# Altium schematic symbol library MainBoard.SCHLIB: 15 symbols
Pins are listed as number, name and electrical type; pins without a type are passive.

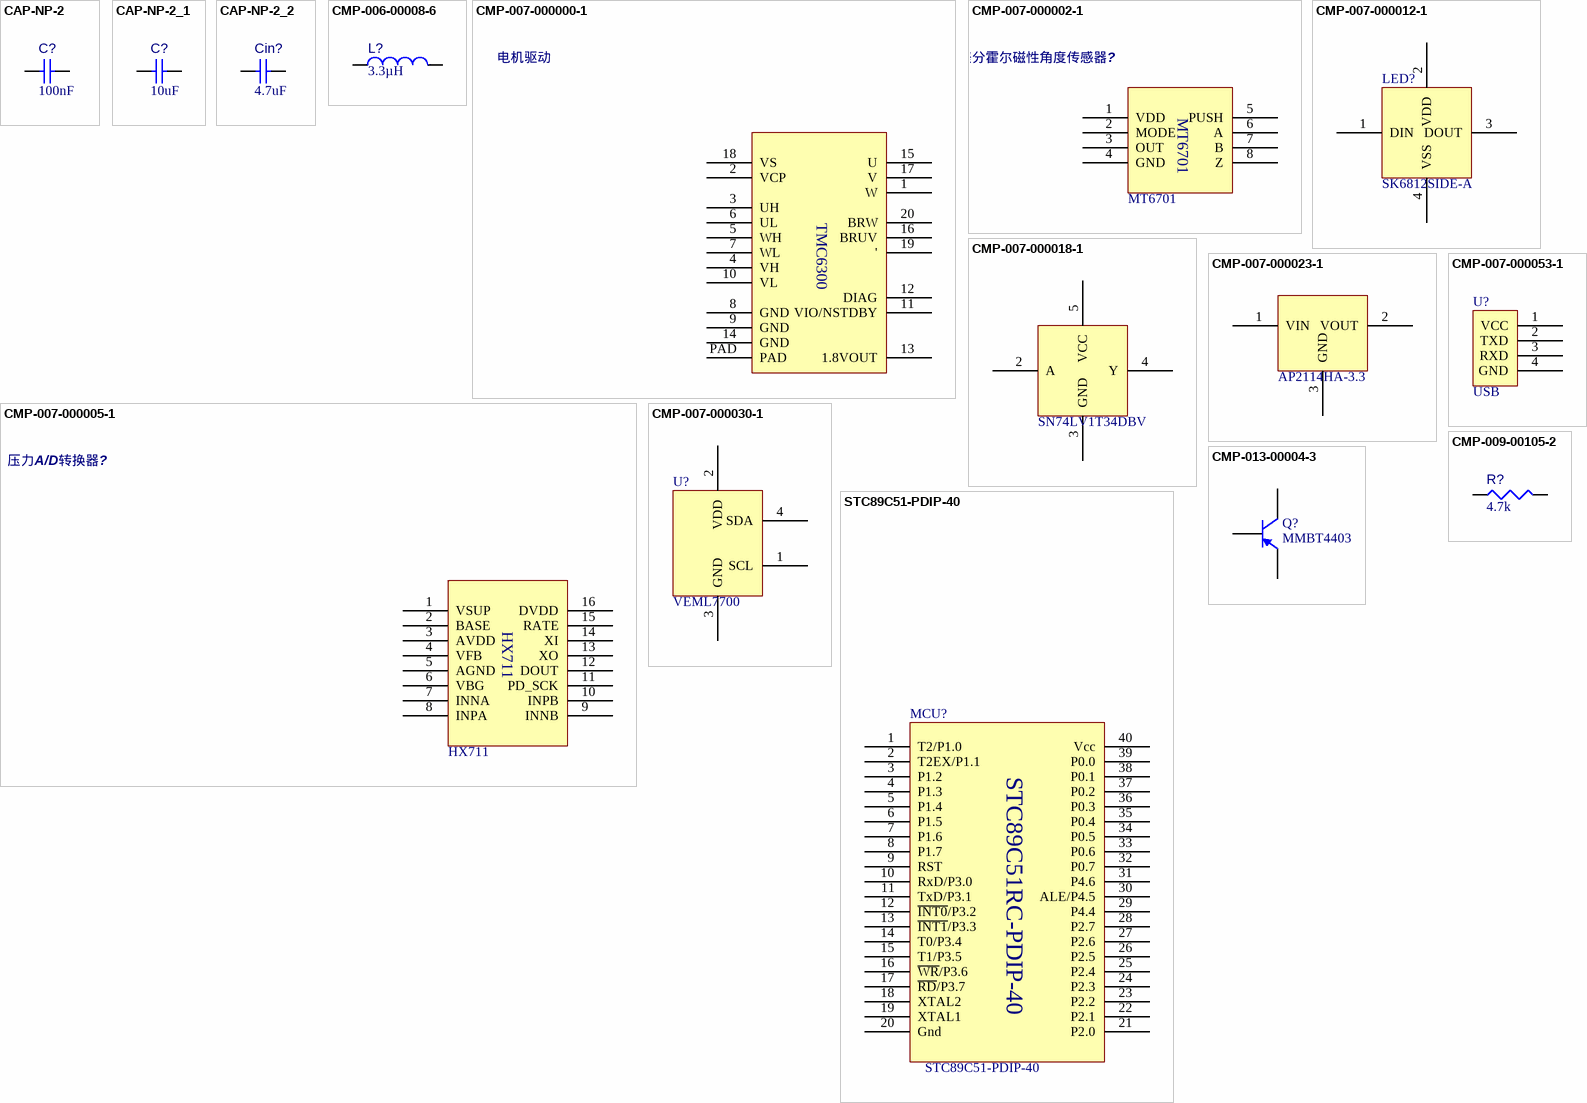
[diagram p0: symbols CAP-NP-2 to STC89C51-PDIP-40]

## CAP-NP-2
designator C?, comment value 100nF  (hidden comment: Capacitor 0.1 uF +/- 5% 16 V 0402)
Chip Capacitor, 0.1 uF, +/- 5%, 16 V, 0402 (1005 Metric); Capacitor Type: Ceramic; Voltage Rating: 16V; Max Operating Temperature: 125°C; Min Operating Temperature: -55°C; Case/Package: 0402; Mounting Technology: SM; Pins: 2; Tolerance: 5%; RoHS Compliant: True
footprint CAPC1005X56X25LL10T15 (Chip Capacitor, 2-Leads, Body 1.10x0.60mm, IPC High Density)
footprint CAPC1005X56X25NL10T15 (Chip Capacitor, 2-Leads, Body 1.10x0.60mm, IPC Medium Density)
footprint CAPC1005X56X25ML10T15 (Chip Capacitor, 2-Leads, Body 1.10x0.60mm, IPC Low Density)
pins: 1, 2

## CAP-NP-2_1
designator C?, comment value 10uF  (hidden comment: Capacitor 0.1 uF +/- 5% 16 V 0402)
Chip Capacitor, 0.1 uF, +/- 5%, 16 V, 0402 (1005 Metric); Capacitor Type: Ceramic; Voltage Rating: 16V; Max Operating Temperature: 125°C; Min Operating Temperature: -55°C; Case/Package: 0402; Mounting Technology: SM; Pins: 2; Tolerance: 5%; RoHS Compliant: True
footprint CAPC1005X56X25LL10T15 (Chip Capacitor, 2-Leads, Body 1.10x0.60mm, IPC High Density)
footprint CAPC1005X56X25NL10T15 (Chip Capacitor, 2-Leads, Body 1.10x0.60mm, IPC Medium Density)
footprint CAPC1005X56X25ML10T15 (Chip Capacitor, 2-Leads, Body 1.10x0.60mm, IPC Low Density)
pins: 1, 2

## CAP-NP-2_2
designator Cin?, comment value 4.7uF  (hidden comment: Capacitor 0.1 uF +/- 5% 16 V 0402)
Chip Capacitor, 0.1 uF, +/- 5%, 16 V, 0402 (1005 Metric); Capacitor Type: Ceramic; Voltage Rating: 16V; Max Operating Temperature: 125°C; Min Operating Temperature: -55°C; Case/Package: 0402; Mounting Technology: SM; Pins: 2; Tolerance: 5%; RoHS Compliant: True
footprint CAPC1005X56X25LL10T15 (Chip Capacitor, 2-Leads, Body 1.10x0.60mm, IPC High Density)
footprint CAPC1005X56X25NL10T15 (Chip Capacitor, 2-Leads, Body 1.10x0.60mm, IPC Medium Density)
footprint CAPC1005X56X25ML10T15 (Chip Capacitor, 2-Leads, Body 1.10x0.60mm, IPC Low Density)
pins: 1, 2

## CMP-006-00008-6
designator L?, comment value 3.3µH  (hidden comment: LQM2HPN1R0MJ0L)
Chip Inductor, 1 uH, +/- 20%, 1 MHz, -55 to 125 degC, 1008 (2520 Metric), RoHS, Tape and Reel; Manufacturer: Murata; Self Resonant Frequency: 70MHz; Current Rating: 1.5A; Shielding: Shielded; Core Material: Ferrite; Resistance: 0.09Ohm; Datasheet URL: http://psearch.en.murata.com/inductor/product/LQM2HPN1R0MJ0%23.pdf; Datasheet Version: Aug-16; RoHS Compliant: True; Case/Package: 1008; Package Description: 2-Pin Surface Mount Device, Body 2.5 x 2 mm; Package Quantity: 3000; Tolerance: 20%; Min Operating Temperature: -40°C; Package Reference: 1008; Packaging: TapeandReel; Mounting Technology: SM; Max Operating Temperature: 85°C; Manufacturer Part Number: LQM2HPN1R0MJ0L; Component Type: Inductors
footprint INDC2520X120X60NL20T20 (Chip Inductor, 2-Leads, Body 2.70x2.20mm, IPC Medium Density)
footprint INDC2520X120X60ML20T20 (Chip Inductor, 2-Leads, Body 2.70x2.20mm, IPC Low Density)
footprint INDC2520X120X60LL20T20 (Chip Inductor, 2-Leads, Body 2.70x2.20mm, IPC High Density)
pins: 1, 2

## CMP-007-000000-1
designator TMC?, comment 电机驱动
Source: IC.SchLib; Design Item ID: TMC6300
pins: 1 W (oc), 2 VCP (oc), 3 UH (oc), 4 VH (oc), 5 WH (oc), 6 UL (oc), 7 WL (oc), 8 GND (oc), 9 GND (oc), 10 VL (oc), 11 VIO/NSTDBY (oc), 12 DIAG (oc), 13 1.8VOUT (oc), 14 GND (oc), 15 U (oc), 16 BRUV (oc), 17 V (oc), 18 VS (oc), 19 ' (oc), 20 BRW (oc), PAD (oc)

## CMP-007-000002-1
designator 差分霍尔磁性角度传感器?, comment MT6701
Source: IC.SchLib; Design Item ID: MT6701
pins: 1 VDD (oc), 2 MODE (oc), 3 OUT (oc), 4 GND (oc), 5 PUSH (oc), 6 A (oc), 7 B (oc), 8 Z (oc)

## CMP-007-000005-1
designator 压力A/D转换器?, comment HX711
Source: IC.SchLib; Design Item ID: HX711
pins: 1 VSUP (oc), 2 BASE (oc), 3 AVDD (oc), 4 VFB (oc), 5 AGND (oc), 6 VBG (oc), 7 INNA (oc), 8 INPA (oc), 9 INNB (oc), 10 INPB (oc), 11 PD_SCK (oc), 12 DOUT (oc), 13 XO (oc), 14 XI (oc), 15 RATE (oc), 16 DVDD (oc)

## CMP-007-000012-1
designator LED?, comment SK6812SIDE-A
Design Item ID: SK6812SIDE-A; Source: IC.SchLib
pins: 1 DIN (oc), 2 VDD (oc), 3 DOUT (oc), 4 VSS (oc)

## CMP-007-000018-1
designator SN74LV1T34DBV?, comment SN74LV1T34DBV
Design Item ID: SN74LV1T34DBV; Source: IC.SchLib
pins: 2 A (oc), 3 GND (oc), 4 Y (oc), 5 VCC (oc)

## CMP-007-000023-1
designator *?, comment AP2114HA-3.3
Source: IC.SchLib; Design Item ID: AP2114HA-3.3
pins: 1 VIN (oc), 2 VOUT (oc), 3 GND (oc)

## CMP-007-000030-1
designator U?, comment VEML7700
Design Item ID: VEML7700; Source: IC.SchLib
pins: 1 SCL (oc), 2 VDD (oc), 3 GND (oc), 4 SDA (oc)

## CMP-007-000053-1
designator U?, comment USB
Source: IC.SchLib; Design Item ID: USB
pins: 1 VCC (oc), 2 TXD (oc), 3 RXD (oc), 4 GND (oc)

## CMP-009-00105-2
designator R?, comment value 4.7k  (hidden comment: 4D7KR2F)
4K7 0.063W 1% 0402 (1005 Metric)  SMD; Power: 63mW; Mounting Technology: SMT; Case/Package: 0402; Tolerance: 1%; Pins: 2; Component Type: Resistors
footprint RESC0402(1005)_L (Chip Resistor, Body 1.0x0.5mm, IPC High Density)
pins: 1, 2
1 alternate drawing of the same symbol

## CMP-013-00004-3
designator Q?, comment MMBT4403
Low Voltage High Current Small Signal PNP Transistor, 20 V, 700 mA, 3-Pin TO-92, RoHS; Manufacturer: Unisonic; Mounting Technology: TH; Package Description: 3-Pin Through Hole Device, Dia 4.58 mm, Pitch 1.27 mm; Datasheet URL: http://media.nkcelectronics.com/datasheet/s8550.pdf; Case/Package: TO-92-3; Datasheet Version: Rev. E, 06/2014; Package Reference: TO-92-3; RoHS Compliant: Unknown; Component Type: Transistors
footprint UNIC-TO-92-3 (TO-92, 3-Leads, Dia 4.58mm, Pitch 1.27mm)
pins: 1 E, 2 B, 3 C

## STC89C51-PDIP-40
designator MCU?
pins: 1 T2/P1.0 (oc), 2 T2EX/P1.1 (oc), 3 P1.2 (oc), 4 P1.3 (oc), 5 P1.4 (oc), 6 P1.5 (oc), 7 P1.6 (oc), 8 P1.7 (oc), 9 RST (oc), 10 RxD/P3.0 (oc), 11 TxD/P3.1 (oc), 12 ~{INT0}/P3.2 (oc), 13 ~{INT1}/P3.3 (oc), 14 T0/P3.4 (oc), 15 T1/P3.5 (oc), 16 ~{WR}/P3.6 (oc), 17 ~{RD}/P3.7 (oc), 18 XTAL2 (oc), 19 XTAL1 (oc), 20 Gnd (oc), 21 P2.0 (oc), 22 P2.1 (oc), 23 P2.2 (oc), 24 P2.3 (oc), 25 P2.4 (oc), 26 P2.5 (oc), 27 P2.6 (oc), 28 P2.7 (oc), 29 P4.4 (oc), 30 ALE/P4.5 (oc), 31 P4.6 (oc), 32 P0.7 (oc), 33 P0.6 (oc), 34 P0.5 (oc), 35 P0.4 (oc), 36 P0.3 (oc), 37 P0.2 (oc), 38 P0.1 (oc), 39 P0.0 (oc), 40 Vcc (oc)
text: STC89C51RC-PDIP-40